# Altium integrated library TI Amplifiers and Linear Special Function Amplifier.IntLib: 708 symbols (part 12 of 47)
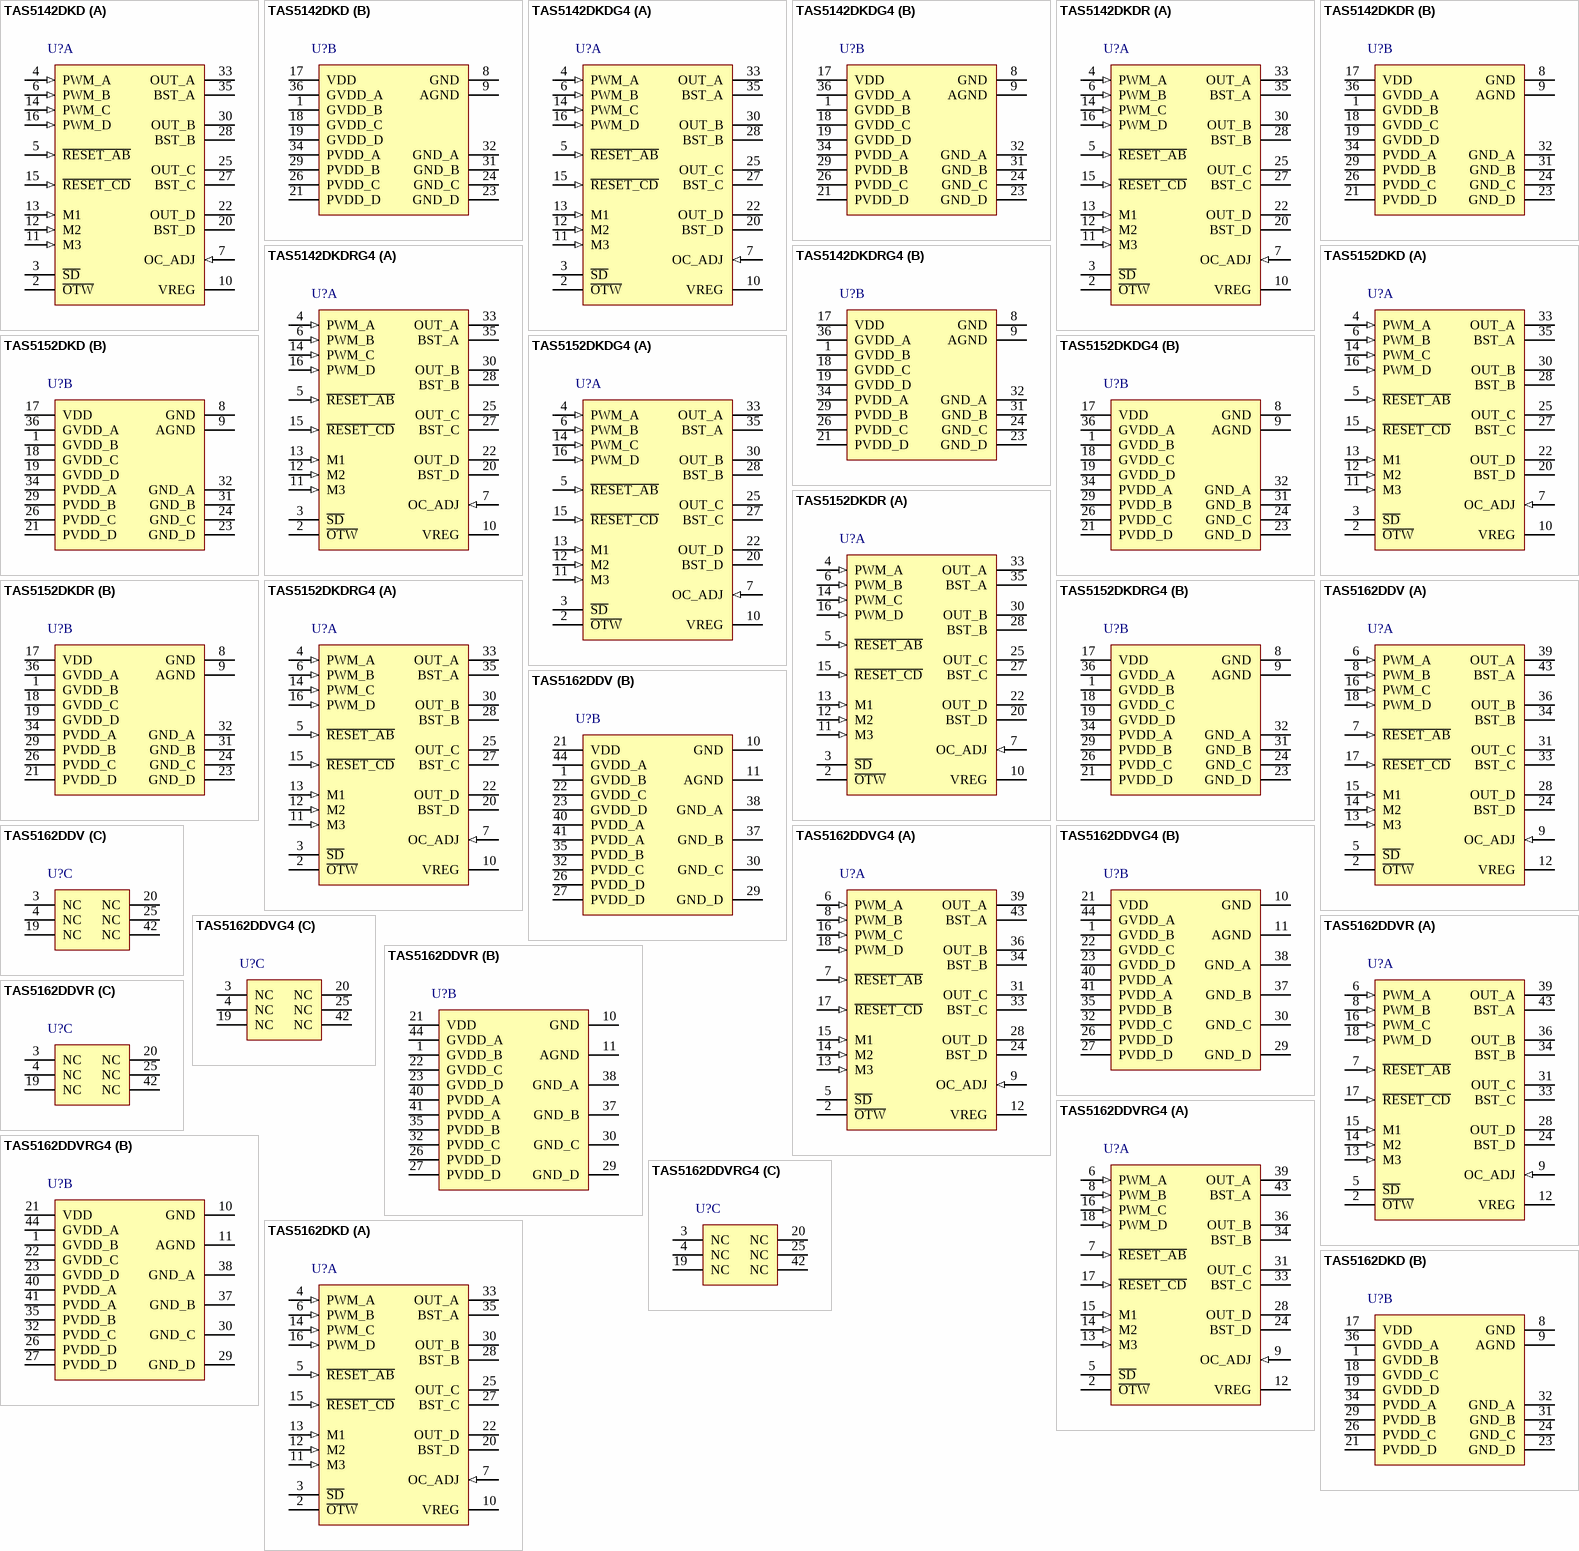
[diagram p50: symbols TAS5142DKD to TAS5162DKD]

## TAS5162DDV
designator U?
210 W Stereo Digital Amplifier Power Stage, 0 to 70 degC, 44-pin SOP (DDV44), Green (RoHS & no Sb/Br); Manufacturer: Texas Instruments; PartNumber: TAS5162DDV; Analog Supply Max [V]: 13.2; Analog Supply Min [V]: 10.8; Input Type: PWM; Max. Number of Speaker Outputs: 4; SubFamily: Mid/High-Power Amplifier; DatasheetVersion: SLES194D; PackageVersion: 4206011/G, 06/2011; PackageReference: DDV44; PackageDescription: 44-Pin Plastic Small Outline, Body 14 x 6.1 mm, Pitch 0.635 mm; Supplier 1: Digi-Key; Supplier Part Number 1: 296-21652-ND; Supplier 2: Newark; Supplier Part Number 2: 34M0078; Supplier 3: Mouser; Supplier Part Number 3: 595-TAS5162DDV; Eco-Plan: Green (RoHS & no Sb/Br); Mounting Technology: Surface Mount; ComponentLink1Description: Manufacturer URL; ComponentLink1URL: http://www.ti.com/; ComponentLink2Description: Datasheet; ComponentLink2URL: http://www.ti.com/general/docs/lit/getliterature.tsp?genericPartNumber=TAS5162&fileType=pdf; ComponentLink3Description: Package Specification; ComponentLink3URL: http://www.ti.com/litv/pdf/mpds169f
footprint TI-DDV44-7830X3880TP_N (DDV, 44-Leads, Body 14x6.1mm, Pitch 0.635mm, Thermal Pad 8.26x4.31mm, IPC Medium Density)
footprint TI-DDV44-7830X3880TP_L (DDV, 44-Leads, Body 14x6.1mm, Pitch 0.635mm, Thermal Pad 8.26x4.31mm, IPC High Density)
footprint TI-DDV44-7830X3880TP_M (DDV, 44-Leads, Body 14x6.1mm, Pitch 0.635mm, Thermal Pad 8.26x4.31mm, IPC Low Density)
part A pins: 2 ~{OTW} (oc) "Overtemperature warning signal, open-drain, active-low", 5 ~{SD} (oc) "Shutdown signal, open-drain, active-low", 6 PWM_A (in) "PWM Input signal for half-bridge A", 7 ~{RESET_AB} (in) "Reset signal for half-bridge A and half-bridge B, active-low", 8 PWM_B (in) "PWM Input signal for half-bridge B", 9 OC_ADJ (in) "Analog overcurrent programming pin", 12 VREG "Internal voltage regulator", 13 M3 (in) "Mode selection pin (MSB)", 14 M2 (in) "Mode selection pin", 15 M1 (in) "Mode selection pin (LSB)", 16 PWM_C (in) "PWM Input signal for half-bridge C", 17 ~{RESET_CD} (in) "Reset signal for half-bridge C and half-bridge D, active-low", 18 PWM_D (in) "PWM Input signal for half-bridge D", 24 BST_D "Bootstrap pin, D-Side", 28 OUT_D (hiz) "Output, half-bridge D", 31 OUT_C (hiz) "Output, half-bridge C", 33 BST_C "Bootstrap pin, C-Side", 34 BST_B "Bootstrap pin, B-Side", 36 OUT_B (hiz) "Output, half-bridge B", 39 OUT_A (hiz) "Output, half-bridge A", 43 BST_A "Bootstrap pin, A-Side"
part B pins: 1 GVDD_B (power) "Gate-drive voltage supply; B-Side", 10 GND (power) "Ground", 11 AGND (power) "Analog ground", 21 VDD (power) "Input power supply", 22 GVDD_C (power) "Gate-drive voltage supply; C-Side", 23 GVDD_D (power) "Gate-drive voltage supply; D-Side", 26 PVDD_D (power) "Power supply input for half-bridge D", 27 PVDD_D (power) "Power supply input for half-bridge D", 29 GND_D (power) "Power ground for half-bridge D", 30 GND_C (power) "Power ground for half-bridge C", 32 PVDD_C (power) "Power supply input for half-bridge C", 35 PVDD_B (power) "Power supply input for half-bridge B", 37 GND_B (power) "Power ground for half-bridge B", 38 GND_A (power) "Power ground for half-bridge A", 40 PVDD_A (power) "Power supply input for half-bridge A", 41 PVDD_A (power) "Power supply input for half-bridge A", 44 GVDD_A (power) "Gate-drive voltage supply; A-Side"
part C pins: 3 NC "No connect. Pins may be grounded.", 4 NC "No connect. Pins may be grounded.", 19 NC "No connect. Pins may be grounded.", 20 NC "No connect. Pins may be grounded.", 25 NC "No connect. Pins may be grounded.", 42 NC "No connect. Pins may be grounded."

## TAS5162DDVG4
designator U?
210 W Stereo Digital Amplifier Power Stage, 0 to 70 degC, 44-pin SOP (DDV44), Green (RoHS & no Sb/Br); Manufacturer: Texas Instruments; PartNumber: TAS5162DDVG4; Analog Supply Max [V]: 13.2; Analog Supply Min [V]: 10.8; Input Type: PWM; Max. Number of Speaker Outputs: 4; SubFamily: Mid/High-Power Amplifier; DatasheetVersion: SLES194D; PackageVersion: 4206011/G, 06/2011; PackageReference: DDV44; PackageDescription: 44-Pin Plastic Small Outline, Body 14 x 6.1 mm, Pitch 0.635 mm; Supplier 1: Digi-Key; Supplier Part Number 1: TAS5162DDVG4-ND; Supplier 2: Mouser; Supplier Part Number 2: 595-TAS5162DDVG4; Eco-Plan: Green (RoHS & no Sb/Br); Mounting Technology: Surface Mount; ComponentLink1Description: Manufacturer URL; ComponentLink1URL: http://www.ti.com/; ComponentLink2Description: Datasheet; ComponentLink2URL: http://www.ti.com/general/docs/lit/getliterature.tsp?genericPartNumber=TAS5162&fileType=pdf; ComponentLink3Description: Package Specification; ComponentLink3URL: http://www.ti.com/litv/pdf/mpds169f
footprint TI-DDV44-7830X3880TP_N (DDV, 44-Leads, Body 14x6.1mm, Pitch 0.635mm, Thermal Pad 8.26x4.31mm, IPC Medium Density)
footprint TI-DDV44-7830X3880TP_L (DDV, 44-Leads, Body 14x6.1mm, Pitch 0.635mm, Thermal Pad 8.26x4.31mm, IPC High Density)
footprint TI-DDV44-7830X3880TP_M (DDV, 44-Leads, Body 14x6.1mm, Pitch 0.635mm, Thermal Pad 8.26x4.31mm, IPC Low Density)
part A pins: 2 ~{OTW} (oc) "Overtemperature warning signal, open-drain, active-low", 5 ~{SD} (oc) "Shutdown signal, open-drain, active-low", 6 PWM_A (in) "PWM Input signal for half-bridge A", 7 ~{RESET_AB} (in) "Reset signal for half-bridge A and half-bridge B, active-low", 8 PWM_B (in) "PWM Input signal for half-bridge B", 9 OC_ADJ (in) "Analog overcurrent programming pin", 12 VREG "Internal voltage regulator", 13 M3 (in) "Mode selection pin (MSB)", 14 M2 (in) "Mode selection pin", 15 M1 (in) "Mode selection pin (LSB)", 16 PWM_C (in) "PWM Input signal for half-bridge C", 17 ~{RESET_CD} (in) "Reset signal for half-bridge C and half-bridge D, active-low", 18 PWM_D (in) "PWM Input signal for half-bridge D", 24 BST_D "Bootstrap pin, D-Side", 28 OUT_D (hiz) "Output, half-bridge D", 31 OUT_C (hiz) "Output, half-bridge C", 33 BST_C "Bootstrap pin, C-Side", 34 BST_B "Bootstrap pin, B-Side", 36 OUT_B (hiz) "Output, half-bridge B", 39 OUT_A (hiz) "Output, half-bridge A", 43 BST_A "Bootstrap pin, A-Side"
part B pins: 1 GVDD_B (power) "Gate-drive voltage supply; B-Side", 10 GND (power) "Ground", 11 AGND (power) "Analog ground", 21 VDD (power) "Input power supply", 22 GVDD_C (power) "Gate-drive voltage supply; C-Side", 23 GVDD_D (power) "Gate-drive voltage supply; D-Side", 26 PVDD_D (power) "Power supply input for half-bridge D", 27 PVDD_D (power) "Power supply input for half-bridge D", 29 GND_D (power) "Power ground for half-bridge D", 30 GND_C (power) "Power ground for half-bridge C", 32 PVDD_C (power) "Power supply input for half-bridge C", 35 PVDD_B (power) "Power supply input for half-bridge B", 37 GND_B (power) "Power ground for half-bridge B", 38 GND_A (power) "Power ground for half-bridge A", 40 PVDD_A (power) "Power supply input for half-bridge A", 41 PVDD_A (power) "Power supply input for half-bridge A", 44 GVDD_A (power) "Gate-drive voltage supply; A-Side"
part C pins: 3 NC "No connect. Pins may be grounded.", 4 NC "No connect. Pins may be grounded.", 19 NC "No connect. Pins may be grounded.", 20 NC "No connect. Pins may be grounded.", 25 NC "No connect. Pins may be grounded.", 42 NC "No connect. Pins may be grounded."

## TAS5162DDVR
designator U?
210 W Stereo Digital Amplifier Power Stage, 0 to 70 degC, 44-pin SOP (DDV44), Green (RoHS & no Sb/Br); Manufacturer: Texas Instruments; PartNumber: TAS5162DDVR; Analog Supply Max [V]: 13.2; Analog Supply Min [V]: 10.8; Input Type: PWM; Max. Number of Speaker Outputs: 4; SubFamily: Mid/High-Power Amplifier; DatasheetVersion: SLES194D; PackageVersion: 4206011/G, 06/2011; PackageReference: DDV44; PackageDescription: 44-Pin Plastic Small Outline, Body 14 x 6.1 mm, Pitch 0.635 mm; Supplier 1: Digi-Key; Supplier Part Number 1: TAS5162DDVR-ND; Supplier 2: Mouser; Supplier Part Number 2: 595-TAS5162DDVR; Eco-Plan: Green (RoHS & no Sb/Br); Mounting Technology: Surface Mount; ComponentLink1Description: Manufacturer URL; ComponentLink1URL: http://www.ti.com/; ComponentLink2Description: Datasheet; ComponentLink2URL: http://www.ti.com/general/docs/lit/getliterature.tsp?genericPartNumber=TAS5162&fileType=pdf; ComponentLink3Description: Package Specification; ComponentLink3URL: http://www.ti.com/litv/pdf/mpds169f
footprint TI-DDV44-7830X3880TP_N (DDV, 44-Leads, Body 14x6.1mm, Pitch 0.635mm, Thermal Pad 8.26x4.31mm, IPC Medium Density)
footprint TI-DDV44-7830X3880TP_L (DDV, 44-Leads, Body 14x6.1mm, Pitch 0.635mm, Thermal Pad 8.26x4.31mm, IPC High Density)
footprint TI-DDV44-7830X3880TP_M (DDV, 44-Leads, Body 14x6.1mm, Pitch 0.635mm, Thermal Pad 8.26x4.31mm, IPC Low Density)
part A pins: 2 ~{OTW} (oc) "Overtemperature warning signal, open-drain, active-low", 5 ~{SD} (oc) "Shutdown signal, open-drain, active-low", 6 PWM_A (in) "PWM Input signal for half-bridge A", 7 ~{RESET_AB} (in) "Reset signal for half-bridge A and half-bridge B, active-low", 8 PWM_B (in) "PWM Input signal for half-bridge B", 9 OC_ADJ (in) "Analog overcurrent programming pin", 12 VREG "Internal voltage regulator", 13 M3 (in) "Mode selection pin (MSB)", 14 M2 (in) "Mode selection pin", 15 M1 (in) "Mode selection pin (LSB)", 16 PWM_C (in) "PWM Input signal for half-bridge C", 17 ~{RESET_CD} (in) "Reset signal for half-bridge C and half-bridge D, active-low", 18 PWM_D (in) "PWM Input signal for half-bridge D", 24 BST_D "Bootstrap pin, D-Side", 28 OUT_D (hiz) "Output, half-bridge D", 31 OUT_C (hiz) "Output, half-bridge C", 33 BST_C "Bootstrap pin, C-Side", 34 BST_B "Bootstrap pin, B-Side", 36 OUT_B (hiz) "Output, half-bridge B", 39 OUT_A (hiz) "Output, half-bridge A", 43 BST_A "Bootstrap pin, A-Side"
part B pins: 1 GVDD_B (power) "Gate-drive voltage supply; B-Side", 10 GND (power) "Ground", 11 AGND (power) "Analog ground", 21 VDD (power) "Input power supply", 22 GVDD_C (power) "Gate-drive voltage supply; C-Side", 23 GVDD_D (power) "Gate-drive voltage supply; D-Side", 26 PVDD_D (power) "Power supply input for half-bridge D", 27 PVDD_D (power) "Power supply input for half-bridge D", 29 GND_D (power) "Power ground for half-bridge D", 30 GND_C (power) "Power ground for half-bridge C", 32 PVDD_C (power) "Power supply input for half-bridge C", 35 PVDD_B (power) "Power supply input for half-bridge B", 37 GND_B (power) "Power ground for half-bridge B", 38 GND_A (power) "Power ground for half-bridge A", 40 PVDD_A (power) "Power supply input for half-bridge A", 41 PVDD_A (power) "Power supply input for half-bridge A", 44 GVDD_A (power) "Gate-drive voltage supply; A-Side"
part C pins: 3 NC "No connect. Pins may be grounded.", 4 NC "No connect. Pins may be grounded.", 19 NC "No connect. Pins may be grounded.", 20 NC "No connect. Pins may be grounded.", 25 NC "No connect. Pins may be grounded.", 42 NC "No connect. Pins may be grounded."

## TAS5162DDVRG4
designator U?
210 W Stereo Digital Amplifier Power Stage, 0 to 70 degC, 44-pin SOP (DDV44), Green (RoHS & no Sb/Br); Manufacturer: Texas Instruments; PartNumber: TAS5162DDVRG4; Analog Supply Max [V]: 13.2; Analog Supply Min [V]: 10.8; Input Type: PWM; Max. Number of Speaker Outputs: 4; SubFamily: Mid/High-Power Amplifier; DatasheetVersion: SLES194D; PackageVersion: 4206011/G, 06/2011; PackageReference: DDV44; PackageDescription: 44-Pin Plastic Small Outline, Body 14 x 6.1 mm, Pitch 0.635 mm; Supplier 1: Digi-Key; Supplier Part Number 1: TAS5162DDVRG4-ND; Supplier 2: Mouser; Supplier Part Number 2: 595-TAS5162DDVRG4; Eco-Plan: Green (RoHS & no Sb/Br); Mounting Technology: Surface Mount; ComponentLink1Description: Manufacturer URL; ComponentLink1URL: http://www.ti.com/; ComponentLink2Description: Datasheet; ComponentLink2URL: http://www.ti.com/general/docs/lit/getliterature.tsp?genericPartNumber=TAS5162&fileType=pdf; ComponentLink3Description: Package Specification; ComponentLink3URL: http://www.ti.com/litv/pdf/mpds169f
footprint TI-DDV44-7830X3880TP_N (DDV, 44-Leads, Body 14x6.1mm, Pitch 0.635mm, Thermal Pad 8.26x4.31mm, IPC Medium Density)
footprint TI-DDV44-7830X3880TP_L (DDV, 44-Leads, Body 14x6.1mm, Pitch 0.635mm, Thermal Pad 8.26x4.31mm, IPC High Density)
footprint TI-DDV44-7830X3880TP_M (DDV, 44-Leads, Body 14x6.1mm, Pitch 0.635mm, Thermal Pad 8.26x4.31mm, IPC Low Density)
part A pins: 2 ~{OTW} (oc) "Overtemperature warning signal, open-drain, active-low", 5 ~{SD} (oc) "Shutdown signal, open-drain, active-low", 6 PWM_A (in) "PWM Input signal for half-bridge A", 7 ~{RESET_AB} (in) "Reset signal for half-bridge A and half-bridge B, active-low", 8 PWM_B (in) "PWM Input signal for half-bridge B", 9 OC_ADJ (in) "Analog overcurrent programming pin", 12 VREG "Internal voltage regulator", 13 M3 (in) "Mode selection pin (MSB)", 14 M2 (in) "Mode selection pin", 15 M1 (in) "Mode selection pin (LSB)", 16 PWM_C (in) "PWM Input signal for half-bridge C", 17 ~{RESET_CD} (in) "Reset signal for half-bridge C and half-bridge D, active-low", 18 PWM_D (in) "PWM Input signal for half-bridge D", 24 BST_D "Bootstrap pin, D-Side", 28 OUT_D (hiz) "Output, half-bridge D", 31 OUT_C (hiz) "Output, half-bridge C", 33 BST_C "Bootstrap pin, C-Side", 34 BST_B "Bootstrap pin, B-Side", 36 OUT_B (hiz) "Output, half-bridge B", 39 OUT_A (hiz) "Output, half-bridge A", 43 BST_A "Bootstrap pin, A-Side"
part B pins: 1 GVDD_B (power) "Gate-drive voltage supply; B-Side", 10 GND (power) "Ground", 11 AGND (power) "Analog ground", 21 VDD (power) "Input power supply", 22 GVDD_C (power) "Gate-drive voltage supply; C-Side", 23 GVDD_D (power) "Gate-drive voltage supply; D-Side", 26 PVDD_D (power) "Power supply input for half-bridge D", 27 PVDD_D (power) "Power supply input for half-bridge D", 29 GND_D (power) "Power ground for half-bridge D", 30 GND_C (power) "Power ground for half-bridge C", 32 PVDD_C (power) "Power supply input for half-bridge C", 35 PVDD_B (power) "Power supply input for half-bridge B", 37 GND_B (power) "Power ground for half-bridge B", 38 GND_A (power) "Power ground for half-bridge A", 40 PVDD_A (power) "Power supply input for half-bridge A", 41 PVDD_A (power) "Power supply input for half-bridge A", 44 GVDD_A (power) "Gate-drive voltage supply; A-Side"
part C pins: 3 NC "No connect. Pins may be grounded.", 4 NC "No connect. Pins may be grounded.", 19 NC "No connect. Pins may be grounded.", 20 NC "No connect. Pins may be grounded.", 25 NC "No connect. Pins may be grounded.", 42 NC "No connect. Pins may be grounded."

## TAS5162DKD
designator U?
210 W Stereo Digital Amplifier Power Stage, 0 to 70 degC, 36-pin SOP (DKD36), Green (RoHS & no Sb/Br); Manufacturer: Texas Instruments; PartNumber: TAS5162DKD; Analog Supply Max [V]: 13.2; Analog Supply Min [V]: 10.8; Input Type: PWM; Max. Number of Speaker Outputs: 4; SubFamily: Mid/High-Power Amplifier; DatasheetVersion: SLES194D; PackageVersion: 4204421-2/K, 06/2012; PackageReference: DKD36; PackageDescription: 36-Pin Plastic Small Outline, Body 15.9 x 11 mm, Pitch 0.65 mm; Supplier 1: Digi-Key; Supplier Part Number 1: 296-21653-ND; Supplier 2: Newark; Supplier Part Number 2: 34M0080; Supplier 3: Mouser; Supplier Part Number 3: 595-TAS5162DKD; Eco-Plan: Green (RoHS & no Sb/Br); Mounting Technology: Surface Mount; ComponentLink1Description: Manufacturer URL; ComponentLink1URL: http://www.ti.com/; ComponentLink2Description: Datasheet; ComponentLink2URL: http://www.ti.com/general/docs/lit/getliterature.tsp?genericPartNumber=TAS5162&fileType=pdf; ComponentLink3Description: Package Specification; ComponentLink3URL: http://www.ti.com/lit/ds/symlink/tas5121i.pdf
footprint TI-DKD36_N (SOP, 36-Leads, Body 16x11.1mm, Pitch 0.65mm, IPC Medium Density)
footprint TI-DKD36_L (SOP, 36-Leads, Body 16x11.1mm, Pitch 0.65mm, IPC High Density)
footprint TI-DKD36_M (SOP, 36-Leads, Body 16x11.1mm, Pitch 0.65mm, IPC Low Density)
part A pins: 2 ~{OTW} (oc) "Overtemperature warning signal, open-drain, active-low", 3 ~{SD} (oc) "Shutdown signal, open-drain, active-low", 4 PWM_A (in) "Input signal for half-bridge A", 5 ~{RESET_AB} (in) "Reset signal for half-bridge A and half-bridge B, active-low", 6 PWM_B (in) "Input signal for half-bridge B", 7 OC_ADJ (in) "Analog overcurrent programming pin requires resistor to ground", 10 VREG "Digital regulator supply filter pin requires 0.1-uF capacitor to AGND.", 11 M3 (in) "Mode selection pin", 12 M2 (in) "Mode selection pin", 13 M1 (in) "Mode selection pin", 14 PWM_C (in) "Input signal for half-bridge C", 15 ~{RESET_CD} (in) "Reset signal for half-bridge C and half-bridge D, active-low", 16 PWM_D (in) "Input signal for half-bridge D", 20 BST_D "HS bootstrap supply (BST), external .033-uF capacitor to OUT_D required", 22 OUT_D (hiz) "Output, half-bridge D", 25 OUT_C (hiz) "Output, half-bridge C", 27 BST_C "HS bootstrap supply (BST), external .033-uF capacitor to OUT_C required", 28 BST_B "HS bootstrap supply (BST), external .033-uF capacitor to OUT_B required", 30 OUT_B (hiz) "Output, half-bridge B", 33 OUT_A (hiz) "Output, half-bridge A", 35 BST_A "HS bootstrap supply (BST), external .033-uF capacitor to OUT_A required"
part B pins: 1 GVDD_B (power) "Gate-drive voltage supply requires 0.1-uF capacitor to AGND", 8 GND (power) "Ground", 9 AGND (power) "Analog ground", 17 VDD (power) "Power supply for digital voltage regulator requires a 47-uF capacitor in parallel with a 0.1-uF capacitor to GND for decoupling.", 18 GVDD_C (power) "Gate-drive voltage supply requires 0.1-uF capacitor to AGND", 19 GVDD_D (power) "Gate-drive voltage supply requires 0.1-uF capacitor to AGND", 21 PVDD_D (power) "Power supply input for half-bridge D requires close decoupling of 0.01-uF capacitor in parallel with a 1.0-uF capacitor to GND_D.", 23 GND_D (power) "Power ground for half-bridge D", 24 GND_C (power) "Power ground for half-bridge C", 26 PVDD_C (power) "Power supply input for half-bridge C requires close decoupling of 0.01-uF capacitor in parallel with a 1.0-uF capacitor to GND_C.", 29 PVDD_B (power) "Power supply input for half-bridge B requires close decoupling of 0.01-uF capacitor in parallel with a 1.0-uF capacitor to GND_B.", 31 GND_B (power) "Power ground for half-bridge B", 32 GND_A (power) "Power ground for half-bridge A", 34 PVDD_A (power) "Power supply input for half-bridge A requires close decoupling of 0.01-uF capacitor in parallel with a 1.0-uF capacitor to GND_A.", 36 GVDD_A (power) "Gate-drive voltage supply requires 0.1-uF capacitor to AGND"

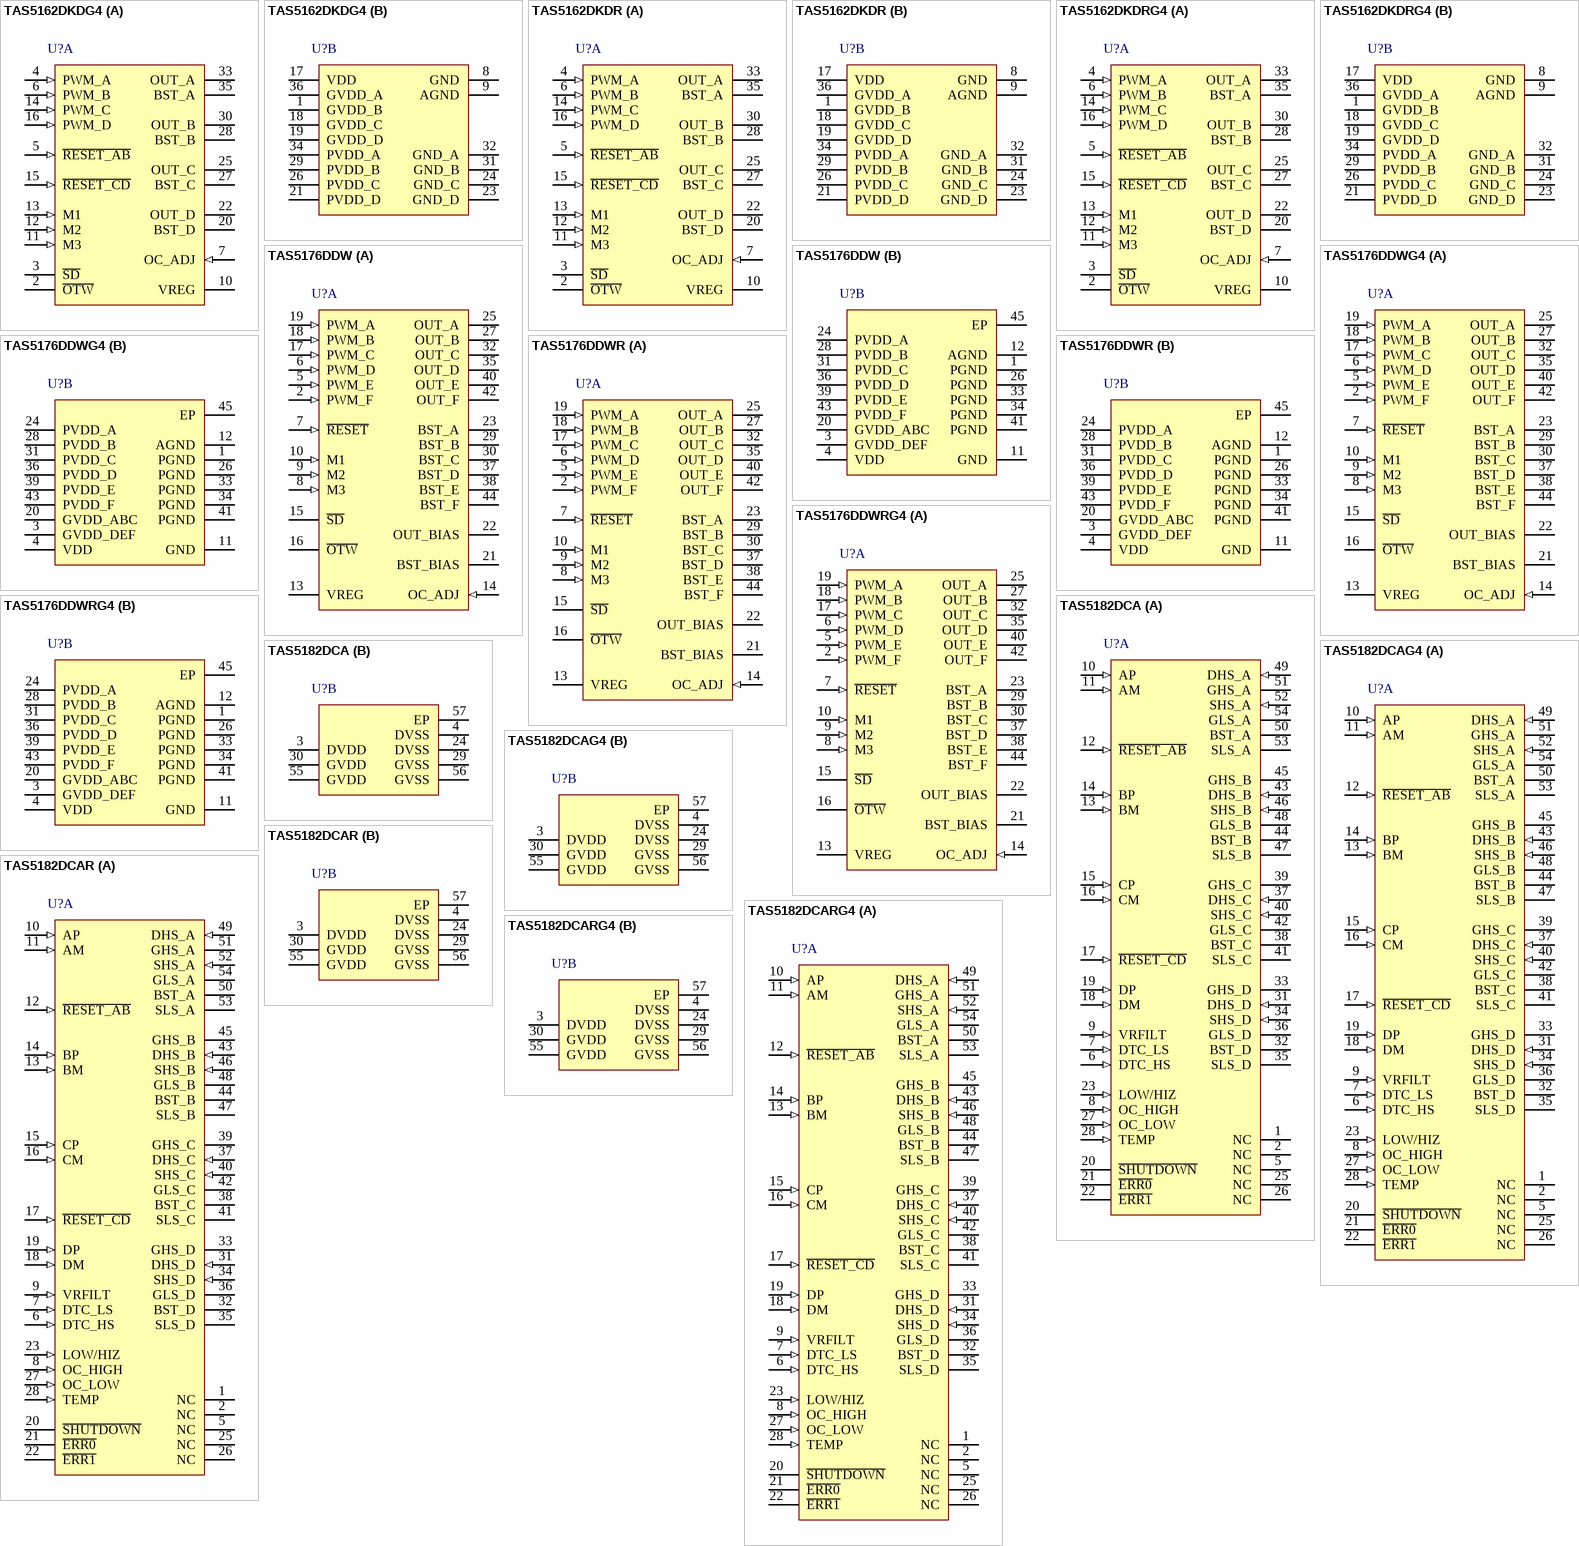
[diagram p11: symbols TAS5162DKDG4 to TAS5182DCARG4]

## TAS5162DKDG4
designator U?
210 W Stereo Digital Amplifier Power Stage, 0 to 70 degC, 36-pin SOP (DKD36), Green (RoHS & no Sb/Br); Manufacturer: Texas Instruments; PartNumber: TAS5162DKDG4; Analog Supply Max [V]: 13.2; Analog Supply Min [V]: 10.8; Input Type: PWM; Max. Number of Speaker Outputs: 4; SubFamily: Mid/High-Power Amplifier; DatasheetVersion: SLES194D; PackageVersion: 4204421-2/K, 06/2012; PackageReference: DKD36; PackageDescription: 36-Pin Plastic Small Outline, Body 15.9 x 11 mm, Pitch 0.65 mm; Supplier 1: Digi-Key; Supplier Part Number 1: TAS5162DKDG4-ND; Supplier 2: Mouser; Supplier Part Number 2: 595-TAS5162DKDG4; Eco-Plan: Green (RoHS & no Sb/Br); Mounting Technology: Surface Mount; ComponentLink1Description: Manufacturer URL; ComponentLink1URL: http://www.ti.com/; ComponentLink2Description: Datasheet; ComponentLink2URL: http://www.ti.com/general/docs/lit/getliterature.tsp?genericPartNumber=TAS5162&fileType=pdf; ComponentLink3Description: Package Specification; ComponentLink3URL: http://www.ti.com/lit/ds/symlink/tas5121i.pdf
footprint TI-DKD36_N (SOP, 36-Leads, Body 16x11.1mm, Pitch 0.65mm, IPC Medium Density)
footprint TI-DKD36_L (SOP, 36-Leads, Body 16x11.1mm, Pitch 0.65mm, IPC High Density)
footprint TI-DKD36_M (SOP, 36-Leads, Body 16x11.1mm, Pitch 0.65mm, IPC Low Density)
part A pins: 2 ~{OTW} (oc) "Overtemperature warning signal, open-drain, active-low", 3 ~{SD} (oc) "Shutdown signal, open-drain, active-low", 4 PWM_A (in) "Input signal for half-bridge A", 5 ~{RESET_AB} (in) "Reset signal for half-bridge A and half-bridge B, active-low", 6 PWM_B (in) "Input signal for half-bridge B", 7 OC_ADJ (in) "Analog overcurrent programming pin requires resistor to ground", 10 VREG "Digital regulator supply filter pin requires 0.1-uF capacitor to AGND.", 11 M3 (in) "Mode selection pin", 12 M2 (in) "Mode selection pin", 13 M1 (in) "Mode selection pin", 14 PWM_C (in) "Input signal for half-bridge C", 15 ~{RESET_CD} (in) "Reset signal for half-bridge C and half-bridge D, active-low", 16 PWM_D (in) "Input signal for half-bridge D", 20 BST_D "HS bootstrap supply (BST), external .033-uF capacitor to OUT_D required", 22 OUT_D (hiz) "Output, half-bridge D", 25 OUT_C (hiz) "Output, half-bridge C", 27 BST_C "HS bootstrap supply (BST), external .033-uF capacitor to OUT_C required", 28 BST_B "HS bootstrap supply (BST), external .033-uF capacitor to OUT_B required", 30 OUT_B (hiz) "Output, half-bridge B", 33 OUT_A (hiz) "Output, half-bridge A", 35 BST_A "HS bootstrap supply (BST), external .033-uF capacitor to OUT_A required"
part B pins: 1 GVDD_B (power) "Gate-drive voltage supply requires 0.1-uF capacitor to AGND", 8 GND (power) "Ground", 9 AGND (power) "Analog ground", 17 VDD (power) "Power supply for digital voltage regulator requires a 47-uF capacitor in parallel with a 0.1-uF capacitor to GND for decoupling.", 18 GVDD_C (power) "Gate-drive voltage supply requires 0.1-uF capacitor to AGND", 19 GVDD_D (power) "Gate-drive voltage supply requires 0.1-uF capacitor to AGND", 21 PVDD_D (power) "Power supply input for half-bridge D requires close decoupling of 0.01-uF capacitor in parallel with a 1.0-uF capacitor to GND_D.", 23 GND_D (power) "Power ground for half-bridge D", 24 GND_C (power) "Power ground for half-bridge C", 26 PVDD_C (power) "Power supply input for half-bridge C requires close decoupling of 0.01-uF capacitor in parallel with a 1.0-uF capacitor to GND_C.", 29 PVDD_B (power) "Power supply input for half-bridge B requires close decoupling of 0.01-uF capacitor in parallel with a 1.0-uF capacitor to GND_B.", 31 GND_B (power) "Power ground for half-bridge B", 32 GND_A (power) "Power ground for half-bridge A", 34 PVDD_A (power) "Power supply input for half-bridge A requires close decoupling of 0.01-uF capacitor in parallel with a 1.0-uF capacitor to GND_A.", 36 GVDD_A (power) "Gate-drive voltage supply requires 0.1-uF capacitor to AGND"

## TAS5162DKDR
designator U?
210 W Stereo Digital Amplifier Power Stage, 0 to 70 degC, 36-pin SOP (DKD36), Green (RoHS & no Sb/Br); Manufacturer: Texas Instruments; PartNumber: TAS5162DKDR; Analog Supply Max [V]: 13.2; Analog Supply Min [V]: 10.8; Input Type: PWM; Max. Number of Speaker Outputs: 4; SubFamily: Mid/High-Power Amplifier; DatasheetVersion: SLES194D; PackageVersion: 4204421-2/K, 06/2012; PackageReference: DKD36; PackageDescription: 36-Pin Plastic Small Outline, Body 15.9 x 11 mm, Pitch 0.65 mm; Supplier 1: Digi-Key; Supplier Part Number 1: TAS5162DKDR-ND; Supplier 2: Mouser; Supplier Part Number 2: 595-TAS5162DKDR; Eco-Plan: Green (RoHS & no Sb/Br); Mounting Technology: Surface Mount; ComponentLink1Description: Manufacturer URL; ComponentLink1URL: http://www.ti.com/; ComponentLink2Description: Datasheet; ComponentLink2URL: http://www.ti.com/general/docs/lit/getliterature.tsp?genericPartNumber=TAS5162&fileType=pdf; ComponentLink3Description: Package Specification; ComponentLink3URL: http://www.ti.com/lit/ds/symlink/tas5121i.pdf
footprint TI-DKD36_N (SOP, 36-Leads, Body 16x11.1mm, Pitch 0.65mm, IPC Medium Density)
footprint TI-DKD36_L (SOP, 36-Leads, Body 16x11.1mm, Pitch 0.65mm, IPC High Density)
footprint TI-DKD36_M (SOP, 36-Leads, Body 16x11.1mm, Pitch 0.65mm, IPC Low Density)
part A pins: 2 ~{OTW} (oc) "Overtemperature warning signal, open-drain, active-low", 3 ~{SD} (oc) "Shutdown signal, open-drain, active-low", 4 PWM_A (in) "Input signal for half-bridge A", 5 ~{RESET_AB} (in) "Reset signal for half-bridge A and half-bridge B, active-low", 6 PWM_B (in) "Input signal for half-bridge B", 7 OC_ADJ (in) "Analog overcurrent programming pin requires resistor to ground", 10 VREG "Digital regulator supply filter pin requires 0.1-uF capacitor to AGND.", 11 M3 (in) "Mode selection pin", 12 M2 (in) "Mode selection pin", 13 M1 (in) "Mode selection pin", 14 PWM_C (in) "Input signal for half-bridge C", 15 ~{RESET_CD} (in) "Reset signal for half-bridge C and half-bridge D, active-low", 16 PWM_D (in) "Input signal for half-bridge D", 20 BST_D "HS bootstrap supply (BST), external .033-uF capacitor to OUT_D required", 22 OUT_D (hiz) "Output, half-bridge D", 25 OUT_C (hiz) "Output, half-bridge C", 27 BST_C "HS bootstrap supply (BST), external .033-uF capacitor to OUT_C required", 28 BST_B "HS bootstrap supply (BST), external .033-uF capacitor to OUT_B required", 30 OUT_B (hiz) "Output, half-bridge B", 33 OUT_A (hiz) "Output, half-bridge A", 35 BST_A "HS bootstrap supply (BST), external .033-uF capacitor to OUT_A required"
part B pins: 1 GVDD_B (power) "Gate-drive voltage supply requires 0.1-uF capacitor to AGND", 8 GND (power) "Ground", 9 AGND (power) "Analog ground", 17 VDD (power) "Power supply for digital voltage regulator requires a 47-uF capacitor in parallel with a 0.1-uF capacitor to GND for decoupling.", 18 GVDD_C (power) "Gate-drive voltage supply requires 0.1-uF capacitor to AGND", 19 GVDD_D (power) "Gate-drive voltage supply requires 0.1-uF capacitor to AGND", 21 PVDD_D (power) "Power supply input for half-bridge D requires close decoupling of 0.01-uF capacitor in parallel with a 1.0-uF capacitor to GND_D.", 23 GND_D (power) "Power ground for half-bridge D", 24 GND_C (power) "Power ground for half-bridge C", 26 PVDD_C (power) "Power supply input for half-bridge C requires close decoupling of 0.01-uF capacitor in parallel with a 1.0-uF capacitor to GND_C.", 29 PVDD_B (power) "Power supply input for half-bridge B requires close decoupling of 0.01-uF capacitor in parallel with a 1.0-uF capacitor to GND_B.", 31 GND_B (power) "Power ground for half-bridge B", 32 GND_A (power) "Power ground for half-bridge A", 34 PVDD_A (power) "Power supply input for half-bridge A requires close decoupling of 0.01-uF capacitor in parallel with a 1.0-uF capacitor to GND_A.", 36 GVDD_A (power) "Gate-drive voltage supply requires 0.1-uF capacitor to AGND"

## TAS5162DKDRG4
designator U?
210 W Stereo Digital Amplifier Power Stage, 0 to 70 degC, 36-pin SOP (DKD36), Green (RoHS & no Sb/Br); Manufacturer: Texas Instruments; PartNumber: TAS5162DKDRG4; Analog Supply Max [V]: 13.2; Analog Supply Min [V]: 10.8; Input Type: PWM; Max. Number of Speaker Outputs: 4; SubFamily: Mid/High-Power Amplifier; DatasheetVersion: SLES194D; PackageVersion: 4204421-2/K, 06/2012; PackageReference: DKD36; PackageDescription: 36-Pin Plastic Small Outline, Body 15.9 x 11 mm, Pitch 0.65 mm; Supplier 1: Digi-Key; Supplier Part Number 1: TAS5162DKDRG4-ND; Supplier 2: Mouser; Supplier Part Number 2: 595-TAS5162DKDRG4; Eco-Plan: Green (RoHS & no Sb/Br); Mounting Technology: Surface Mount; ComponentLink1Description: Manufacturer URL; ComponentLink1URL: http://www.ti.com/; ComponentLink2Description: Datasheet; ComponentLink2URL: http://www.ti.com/general/docs/lit/getliterature.tsp?genericPartNumber=TAS5162&fileType=pdf; ComponentLink3Description: Package Specification; ComponentLink3URL: http://www.ti.com/lit/ds/symlink/tas5121i.pdf
footprint TI-DKD36_N (SOP, 36-Leads, Body 16x11.1mm, Pitch 0.65mm, IPC Medium Density)
footprint TI-DKD36_L (SOP, 36-Leads, Body 16x11.1mm, Pitch 0.65mm, IPC High Density)
footprint TI-DKD36_M (SOP, 36-Leads, Body 16x11.1mm, Pitch 0.65mm, IPC Low Density)
part A pins: 2 ~{OTW} (oc) "Overtemperature warning signal, open-drain, active-low", 3 ~{SD} (oc) "Shutdown signal, open-drain, active-low", 4 PWM_A (in) "Input signal for half-bridge A", 5 ~{RESET_AB} (in) "Reset signal for half-bridge A and half-bridge B, active-low", 6 PWM_B (in) "Input signal for half-bridge B", 7 OC_ADJ (in) "Analog overcurrent programming pin requires resistor to ground", 10 VREG "Digital regulator supply filter pin requires 0.1-uF capacitor to AGND.", 11 M3 (in) "Mode selection pin", 12 M2 (in) "Mode selection pin", 13 M1 (in) "Mode selection pin", 14 PWM_C (in) "Input signal for half-bridge C", 15 ~{RESET_CD} (in) "Reset signal for half-bridge C and half-bridge D, active-low", 16 PWM_D (in) "Input signal for half-bridge D", 20 BST_D "HS bootstrap supply (BST), external .033-uF capacitor to OUT_D required", 22 OUT_D (hiz) "Output, half-bridge D", 25 OUT_C (hiz) "Output, half-bridge C", 27 BST_C "HS bootstrap supply (BST), external .033-uF capacitor to OUT_C required", 28 BST_B "HS bootstrap supply (BST), external .033-uF capacitor to OUT_B required", 30 OUT_B (hiz) "Output, half-bridge B", 33 OUT_A (hiz) "Output, half-bridge A", 35 BST_A "HS bootstrap supply (BST), external .033-uF capacitor to OUT_A required"
part B pins: 1 GVDD_B (power) "Gate-drive voltage supply requires 0.1-uF capacitor to AGND", 8 GND (power) "Ground", 9 AGND (power) "Analog ground", 17 VDD (power) "Power supply for digital voltage regulator requires a 47-uF capacitor in parallel with a 0.1-uF capacitor to GND for decoupling.", 18 GVDD_C (power) "Gate-drive voltage supply requires 0.1-uF capacitor to AGND", 19 GVDD_D (power) "Gate-drive voltage supply requires 0.1-uF capacitor to AGND", 21 PVDD_D (power) "Power supply input for half-bridge D requires close decoupling of 0.01-uF capacitor in parallel with a 1.0-uF capacitor to GND_D.", 23 GND_D (power) "Power ground for half-bridge D", 24 GND_C (power) "Power ground for half-bridge C", 26 PVDD_C (power) "Power supply input for half-bridge C requires close decoupling of 0.01-uF capacitor in parallel with a 1.0-uF capacitor to GND_C.", 29 PVDD_B (power) "Power supply input for half-bridge B requires close decoupling of 0.01-uF capacitor in parallel with a 1.0-uF capacitor to GND_B.", 31 GND_B (power) "Power ground for half-bridge B", 32 GND_A (power) "Power ground for half-bridge A", 34 PVDD_A (power) "Power supply input for half-bridge A requires close decoupling of 0.01-uF capacitor in parallel with a 1.0-uF capacitor to GND_A.", 36 GVDD_A (power) "Gate-drive voltage supply requires 0.1-uF capacitor to AGND"

## TAS5176DDW
designator U?
100 W (6 Channel) Digital Amplifier Power Stage, 44-pin SOP (DDW44), Green (RoHS & no Sb/Br); Manufacturer: Texas Instruments; PartNumber: TAS5176DDW; Analog Supply Max [V]: 13.2; Analog Supply Min [V]: 10.8; Input Type: PWM; Max. Number of Speaker Outputs: 6; SubFamily: Mid/High-Power Amplifier; DatasheetVersion: SLES196; PackageVersion: 4208211/B, 10/2006; PackageReference: DDW44-7850X3790TP; Supplier 1: Digi-Key; Supplier Part Number 1: 296-22026-5-ND; Supplier 2: Farnell; Supplier Part Number 2: 1755211; Supplier 3: Newark; Supplier Part Number 3: 50M8940; Supplier 4: Mouser; Supplier Part Number 4: 595-TAS5176DDW; Eco-Plan: Green (RoHS & no Sb/Br); Mounting Technology: Surface Mount; ComponentLink1Description: Manufacturer URL; ComponentLink1URL: http://www.ti.com/; ComponentLink2Description: Datasheet; ComponentLink2URL: http://www.ti.com/general/docs/lit/getliterature.tsp?genericPartNumber=TAS5176&fileType=pdf; ComponentLink3Description: Package Specification; ComponentLink3URL: http://www.ti.com/lit/ds/symlink/tas5176.pdf
footprint TI-DDW44-7850X3790TP_N (SOP, 44-Leads, Body 14x6.1mm, Pitch 0.635mm, Thermal Pad 4.24x8.3mm, IPC Medium Density)
footprint TI-DDW44-7850X3790TP_L (SOP, 44-Leads, Body 14x6.1mm, Pitch 0.635mm, Thermal Pad 4.24x8.3mm, IPC High Density)
footprint TI-DDW44-7850X3790TP_M (SOP, 44-Leads, Body 14x6.1mm, Pitch 0.635mm, Thermal Pad 4.24x8.3mm, IPC Low Density)
part A pins: 2 PWM_F (in) "PWM input signal for half-bridge F", 5 PWM_E (in) "PWM input signal for half-bridge E", 6 PWM_D (in) "PWM input signal for half-bridge D", 7 ~{RESET} (in) "Reset signal (active-low logic)", 8 M3 (in) "Mode selection pin", 9 M2 (in) "Mode selection pin", 10 M1 (in) "Mode selection pin", 13 VREG "Digital regulator supply filter pin, output", 14 OC_ADJ (in) "Overcurrent threshold programming pin, resistor to AGND required", 15 ~{SD} (oc) "Shutdown open-drain output signal, active-low", 16 ~{OTW} (oc) "Overtemperature warning open-drain output signal, active-low", 17 PWM_C (in) "PWM input signal for half-bridge C", 18 PWM_B (in) "PWM input signal for half-bridge B", 19 PWM_A (in) "PWM input signal for half-bridge A", 21 BST_BIAS "BIAS bootstrap supply, external capacitor to OUT_BIAS required", 22 OUT_BIAS "BIAS half-bridge output pin", 23 BST_A "HS bootstrap supply (BST), capacitor to OUT_A required", 25 OUT_A (hiz) "Output, half-bridge A, satellite", 27 OUT_B (hiz) "Output, half-bridge B, satellite", 29 BST_B "HS bootstrap supply (BST), external capacitor to OUT_B required", 30 BST_C "HS bootstrap supply (BST), external capacitor to OUT_C required", 32 OUT_C (hiz) "Output, half-bridge C, subwoofer", 35 OUT_D (hiz) "Output, half-bridge D, satellite", 37 BST_D "HS bootstrap supply (BST), external capacitor to OUT_D required", 38 BST_E "HS bootstrap supply (BST), external capacitor to OUT_E required", 40 OUT_E (hiz) "Output, half-bridge E, satellite", 42 OUT_F (hiz) "Output, half-bridge F, satellite", 44 BST_F "HS bootstrap supply (BST), external capacitor to OUT_F required"
part B pins: 1 PGND (power) "Power ground", 3 GVDD_DEF (power) "Gate drive voltage supply", 4 VDD (power) "Power supply for digital voltage regulator", 11 GND (power) "Chip ground", 12 AGND (power) "Analog ground", 20 GVDD_ABC (power) "Gate drive voltage supply", 24 PVDD_A (power) "Power-supply input for half-bridge A", 26 PGND (power) "Power ground", 28 PVDD_B (power) "Power-supply input for half-bridge B", 31 PVDD_C (power) "Power-supply input for half-bridge C", 33 PGND (power) "Power ground", 34 PGND (power) "Power ground", 36 PVDD_D (power) "Power-supply input for half-bridge D", 39 PVDD_E (power) "Power-supply input for half-bridge E", 41 PGND (power) "Power ground", 43 PVDD_F (power) "Power-supply input for half-bridge F", 45 EP (power)

## TAS5176DDWG4
designator U?
100 W (6 Channel) Digital Amplifier Power Stage, 44-pin SOP (DDW44), Green (RoHS & no Sb/Br); Manufacturer: Texas Instruments; PartNumber: TAS5176DDWG4; Analog Supply Max [V]: 13.2; Analog Supply Min [V]: 10.8; Input Type: PWM; Max. Number of Speaker Outputs: 6; SubFamily: Mid/High-Power Amplifier; DatasheetVersion: SLES196; PackageVersion: 4208211/B, 10/2006; PackageReference: DDW44-7850X3790TP; Supplier 1: Digi-Key; Supplier Part Number 1: TAS5176DDWG4-ND; Supplier 2: Newark; Supplier Part Number 2: 52M6046; Supplier 3: Mouser; Supplier Part Number 3: 595-TAS5176DDWG4; Eco-Plan: Green (RoHS & no Sb/Br); Mounting Technology: Surface Mount; ComponentLink1Description: Manufacturer URL; ComponentLink1URL: http://www.ti.com/; ComponentLink2Description: Datasheet; ComponentLink2URL: http://www.ti.com/general/docs/lit/getliterature.tsp?genericPartNumber=TAS5176&fileType=pdf; ComponentLink3Description: Package Specification; ComponentLink3URL: http://www.ti.com/lit/ds/symlink/tas5176.pdf
footprint TI-DDW44-7850X3790TP_N (SOP, 44-Leads, Body 14x6.1mm, Pitch 0.635mm, Thermal Pad 4.24x8.3mm, IPC Medium Density)
footprint TI-DDW44-7850X3790TP_L (SOP, 44-Leads, Body 14x6.1mm, Pitch 0.635mm, Thermal Pad 4.24x8.3mm, IPC High Density)
footprint TI-DDW44-7850X3790TP_M (SOP, 44-Leads, Body 14x6.1mm, Pitch 0.635mm, Thermal Pad 4.24x8.3mm, IPC Low Density)
part A pins: 2 PWM_F (in) "PWM input signal for half-bridge F", 5 PWM_E (in) "PWM input signal for half-bridge E", 6 PWM_D (in) "PWM input signal for half-bridge D", 7 ~{RESET} (in) "Reset signal (active-low logic)", 8 M3 (in) "Mode selection pin", 9 M2 (in) "Mode selection pin", 10 M1 (in) "Mode selection pin", 13 VREG "Digital regulator supply filter pin, output", 14 OC_ADJ (in) "Overcurrent threshold programming pin, resistor to AGND required", 15 ~{SD} (oc) "Shutdown open-drain output signal, active-low", 16 ~{OTW} (oc) "Overtemperature warning open-drain output signal, active-low", 17 PWM_C (in) "PWM input signal for half-bridge C", 18 PWM_B (in) "PWM input signal for half-bridge B", 19 PWM_A (in) "PWM input signal for half-bridge A", 21 BST_BIAS "BIAS bootstrap supply, external capacitor to OUT_BIAS required", 22 OUT_BIAS "BIAS half-bridge output pin", 23 BST_A "HS bootstrap supply (BST), capacitor to OUT_A required", 25 OUT_A (hiz) "Output, half-bridge A, satellite", 27 OUT_B (hiz) "Output, half-bridge B, satellite", 29 BST_B "HS bootstrap supply (BST), external capacitor to OUT_B required", 30 BST_C "HS bootstrap supply (BST), external capacitor to OUT_C required", 32 OUT_C (hiz) "Output, half-bridge C, subwoofer", 35 OUT_D (hiz) "Output, half-bridge D, satellite", 37 BST_D "HS bootstrap supply (BST), external capacitor to OUT_D required", 38 BST_E "HS bootstrap supply (BST), external capacitor to OUT_E required", 40 OUT_E (hiz) "Output, half-bridge E, satellite", 42 OUT_F (hiz) "Output, half-bridge F, satellite", 44 BST_F "HS bootstrap supply (BST), external capacitor to OUT_F required"
part B pins: 1 PGND (power) "Power ground", 3 GVDD_DEF (power) "Gate drive voltage supply", 4 VDD (power) "Power supply for digital voltage regulator", 11 GND (power) "Chip ground", 12 AGND (power) "Analog ground", 20 GVDD_ABC (power) "Gate drive voltage supply", 24 PVDD_A (power) "Power-supply input for half-bridge A", 26 PGND (power) "Power ground", 28 PVDD_B (power) "Power-supply input for half-bridge B", 31 PVDD_C (power) "Power-supply input for half-bridge C", 33 PGND (power) "Power ground", 34 PGND (power) "Power ground", 36 PVDD_D (power) "Power-supply input for half-bridge D", 39 PVDD_E (power) "Power-supply input for half-bridge E", 41 PGND (power) "Power ground", 43 PVDD_F (power) "Power-supply input for half-bridge F", 45 EP (power)

## TAS5176DDWR
designator U?
100 W (6 Channel) Digital Amplifier Power Stage, 44-pin SOP (DDW44), Green (RoHS & no Sb/Br); Manufacturer: Texas Instruments; PartNumber: TAS5176DDWR; Analog Supply Max [V]: 13.2; Analog Supply Min [V]: 10.8; Input Type: PWM; Max. Number of Speaker Outputs: 6; SubFamily: Mid/High-Power Amplifier; DatasheetVersion: SLES196; PackageVersion: 4208211/B, 10/2006; PackageReference: DDW44-7850X3790TP; Supplier 1: Digi-Key; Supplier Part Number 1: TAS5176DDWR-ND; Supplier 2: Newark; Supplier Part Number 2: 50M8941; Supplier 3: Mouser; Supplier Part Number 3: 595-TAS5176DDWR; Eco-Plan: Green (RoHS & no Sb/Br); Mounting Technology: Surface Mount; ComponentLink1Description: Manufacturer URL; ComponentLink1URL: http://www.ti.com/; ComponentLink2Description: Datasheet; ComponentLink2URL: http://www.ti.com/general/docs/lit/getliterature.tsp?genericPartNumber=TAS5176&fileType=pdf; ComponentLink3Description: Package Specification; ComponentLink3URL: http://www.ti.com/lit/ds/symlink/tas5176.pdf
footprint TI-DDW44-7850X3790TP_N (SOP, 44-Leads, Body 14x6.1mm, Pitch 0.635mm, Thermal Pad 4.24x8.3mm, IPC Medium Density)
footprint TI-DDW44-7850X3790TP_L (SOP, 44-Leads, Body 14x6.1mm, Pitch 0.635mm, Thermal Pad 4.24x8.3mm, IPC High Density)
footprint TI-DDW44-7850X3790TP_M (SOP, 44-Leads, Body 14x6.1mm, Pitch 0.635mm, Thermal Pad 4.24x8.3mm, IPC Low Density)
part A pins: 2 PWM_F (in) "PWM input signal for half-bridge F", 5 PWM_E (in) "PWM input signal for half-bridge E", 6 PWM_D (in) "PWM input signal for half-bridge D", 7 ~{RESET} (in) "Reset signal (active-low logic)", 8 M3 (in) "Mode selection pin", 9 M2 (in) "Mode selection pin", 10 M1 (in) "Mode selection pin", 13 VREG "Digital regulator supply filter pin, output", 14 OC_ADJ (in) "Overcurrent threshold programming pin, resistor to AGND required", 15 ~{SD} (oc) "Shutdown open-drain output signal, active-low", 16 ~{OTW} (oc) "Overtemperature warning open-drain output signal, active-low", 17 PWM_C (in) "PWM input signal for half-bridge C", 18 PWM_B (in) "PWM input signal for half-bridge B", 19 PWM_A (in) "PWM input signal for half-bridge A", 21 BST_BIAS "BIAS bootstrap supply, external capacitor to OUT_BIAS required", 22 OUT_BIAS "BIAS half-bridge output pin", 23 BST_A "HS bootstrap supply (BST), capacitor to OUT_A required", 25 OUT_A (hiz) "Output, half-bridge A, satellite", 27 OUT_B (hiz) "Output, half-bridge B, satellite", 29 BST_B "HS bootstrap supply (BST), external capacitor to OUT_B required", 30 BST_C "HS bootstrap supply (BST), external capacitor to OUT_C required", 32 OUT_C (hiz) "Output, half-bridge C, subwoofer", 35 OUT_D (hiz) "Output, half-bridge D, satellite", 37 BST_D "HS bootstrap supply (BST), external capacitor to OUT_D required", 38 BST_E "HS bootstrap supply (BST), external capacitor to OUT_E required", 40 OUT_E (hiz) "Output, half-bridge E, satellite", 42 OUT_F (hiz) "Output, half-bridge F, satellite", 44 BST_F "HS bootstrap supply (BST), external capacitor to OUT_F required"
part B pins: 1 PGND (power) "Power ground", 3 GVDD_DEF (power) "Gate drive voltage supply", 4 VDD (power) "Power supply for digital voltage regulator", 11 GND (power) "Chip ground", 12 AGND (power) "Analog ground", 20 GVDD_ABC (power) "Gate drive voltage supply", 24 PVDD_A (power) "Power-supply input for half-bridge A", 26 PGND (power) "Power ground", 28 PVDD_B (power) "Power-supply input for half-bridge B", 31 PVDD_C (power) "Power-supply input for half-bridge C", 33 PGND (power) "Power ground", 34 PGND (power) "Power ground", 36 PVDD_D (power) "Power-supply input for half-bridge D", 39 PVDD_E (power) "Power-supply input for half-bridge E", 41 PGND (power) "Power ground", 43 PVDD_F (power) "Power-supply input for half-bridge F", 45 EP (power)

## TAS5176DDWRG4
designator U?
100 W (6 Channel) Digital Amplifier Power Stage, 44-pin SOP (DDW44), Green (RoHS & no Sb/Br); Manufacturer: Texas Instruments; PartNumber: TAS5176DDWRG4; Analog Supply Max [V]: 13.2; Analog Supply Min [V]: 10.8; Input Type: PWM; Max. Number of Speaker Outputs: 6; SubFamily: Mid/High-Power Amplifier; DatasheetVersion: SLES196; PackageVersion: 4208211/B, 10/2006; PackageReference: DDW44-7850X3790TP; Supplier 1: Digi-Key; Supplier Part Number 1: TAS5176DDWRG4-ND; Supplier 2: Newark; Supplier Part Number 2: 52M6047; Supplier 3: Mouser; Supplier Part Number 3: 595-TAS5176DDWRG4; Eco-Plan: Green (RoHS & no Sb/Br); Mounting Technology: Surface Mount; ComponentLink1Description: Manufacturer URL; ComponentLink1URL: http://www.ti.com/; ComponentLink2Description: Datasheet; ComponentLink2URL: http://www.ti.com/general/docs/lit/getliterature.tsp?genericPartNumber=TAS5176&fileType=pdf; ComponentLink3Description: Package Specification; ComponentLink3URL: http://www.ti.com/lit/ds/symlink/tas5176.pdf
footprint TI-DDW44-7850X3790TP_N (SOP, 44-Leads, Body 14x6.1mm, Pitch 0.635mm, Thermal Pad 4.24x8.3mm, IPC Medium Density)
footprint TI-DDW44-7850X3790TP_L (SOP, 44-Leads, Body 14x6.1mm, Pitch 0.635mm, Thermal Pad 4.24x8.3mm, IPC High Density)
footprint TI-DDW44-7850X3790TP_M (SOP, 44-Leads, Body 14x6.1mm, Pitch 0.635mm, Thermal Pad 4.24x8.3mm, IPC Low Density)
part A pins: 2 PWM_F (in) "PWM input signal for half-bridge F", 5 PWM_E (in) "PWM input signal for half-bridge E", 6 PWM_D (in) "PWM input signal for half-bridge D", 7 ~{RESET} (in) "Reset signal (active-low logic)", 8 M3 (in) "Mode selection pin", 9 M2 (in) "Mode selection pin", 10 M1 (in) "Mode selection pin", 13 VREG "Digital regulator supply filter pin, output", 14 OC_ADJ (in) "Overcurrent threshold programming pin, resistor to AGND required", 15 ~{SD} (oc) "Shutdown open-drain output signal, active-low", 16 ~{OTW} (oc) "Overtemperature warning open-drain output signal, active-low", 17 PWM_C (in) "PWM input signal for half-bridge C", 18 PWM_B (in) "PWM input signal for half-bridge B", 19 PWM_A (in) "PWM input signal for half-bridge A", 21 BST_BIAS "BIAS bootstrap supply, external capacitor to OUT_BIAS required", 22 OUT_BIAS "BIAS half-bridge output pin", 23 BST_A "HS bootstrap supply (BST), capacitor to OUT_A required", 25 OUT_A (hiz) "Output, half-bridge A, satellite", 27 OUT_B (hiz) "Output, half-bridge B, satellite", 29 BST_B "HS bootstrap supply (BST), external capacitor to OUT_B required", 30 BST_C "HS bootstrap supply (BST), external capacitor to OUT_C required", 32 OUT_C (hiz) "Output, half-bridge C, subwoofer", 35 OUT_D (hiz) "Output, half-bridge D, satellite", 37 BST_D "HS bootstrap supply (BST), external capacitor to OUT_D required", 38 BST_E "HS bootstrap supply (BST), external capacitor to OUT_E required", 40 OUT_E (hiz) "Output, half-bridge E, satellite", 42 OUT_F (hiz) "Output, half-bridge F, satellite", 44 BST_F "HS bootstrap supply (BST), external capacitor to OUT_F required"
part B pins: 1 PGND (power) "Power ground", 3 GVDD_DEF (power) "Gate drive voltage supply", 4 VDD (power) "Power supply for digital voltage regulator", 11 GND (power) "Chip ground", 12 AGND (power) "Analog ground", 20 GVDD_ABC (power) "Gate drive voltage supply", 24 PVDD_A (power) "Power-supply input for half-bridge A", 26 PGND (power) "Power ground", 28 PVDD_B (power) "Power-supply input for half-bridge B", 31 PVDD_C (power) "Power-supply input for half-bridge C", 33 PGND (power) "Power ground", 34 PGND (power) "Power ground", 36 PVDD_D (power) "Power-supply input for half-bridge D", 39 PVDD_E (power) "Power-supply input for half-bridge E", 41 PGND (power) "Power ground", 43 PVDD_F (power) "Power-supply input for half-bridge F", 45 EP (power)